# EAGLE library part SRAM-2MX8-TSOP44 (library xess)
2M x 8 SRAM
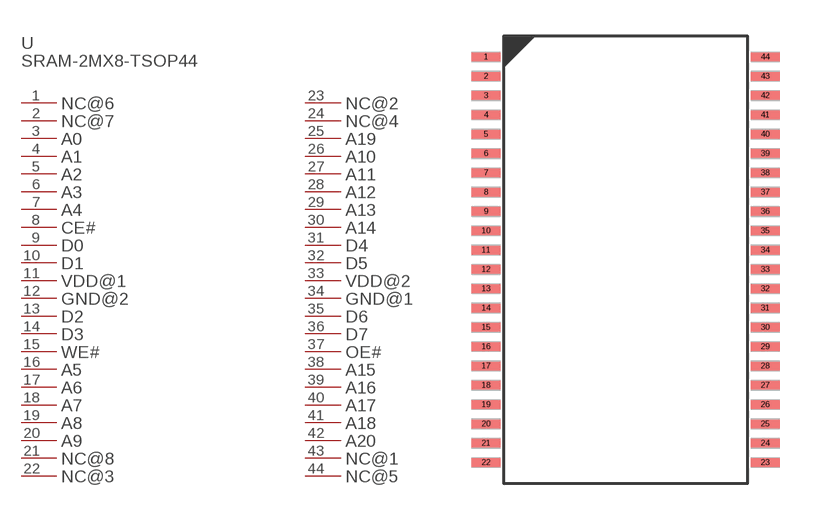
[diagram p93: symbol with the pads of SRAM-2MX8-TSOP44; footprint SRAM-2MX8-TSOP44]

Designator prefix U; gates PART_VALUE=PART_VALUE-SRAM-2MX8-TSOP44 NC@6=PL-SRAM-2MX8-TSOP44 NC@7=PL-SRAM-2MX8-TSOP44 A0=PL-SRAM-2MX8-TSOP44 A1=PL-SRAM-2MX8-TSOP44 A2=PL-SRAM-2MX8-TSOP44 A3=PL-SRAM-2MX8-TSOP44 A4=PL-SRAM-2MX8-TSOP44 CE#=PL-SRAM-2MX8-TSOP44 D0=PL-SRAM-2MX8-TSOP44 D1=PL-SRAM-2MX8-TSOP44 VDD@1=PL-SRAM-2MX8-TSOP44 GND@2=PL-SRAM-2MX8-TSOP44 D2=PL-SRAM-2MX8-TSOP44 D3=PL-SRAM-2MX8-TSOP44 WE#=PL-SRAM-2MX8-TSOP44 A5=PL-SRAM-2MX8-TSOP44 A6=PL-SRAM-2MX8-TSOP44 A7=PL-SRAM-2MX8-TSOP44 A8=PL-SRAM-2MX8-TSOP44 A9=PL-SRAM-2MX8-TSOP44 NC@8=PL-SRAM-2MX8-TSOP44 NC@3=PL-SRAM-2MX8-TSOP44 NC@2=PL-SRAM-2MX8-TSOP44 NC@4=PL-SRAM-2MX8-TSOP44 A19=PL-SRAM-2MX8-TSOP44 A10=PL-SRAM-2MX8-TSOP44 A11=PL-SRAM-2MX8-TSOP44 A12=PL-SRAM-2MX8-TSOP44 A13=PL-SRAM-2MX8-TSOP44 A14=PL-SRAM-2MX8-TSOP44 D4=PL-SRAM-2MX8-TSOP44 D5=PL-SRAM-2MX8-TSOP44 VDD@2=PL-SRAM-2MX8-TSOP44 GND@1=PL-SRAM-2MX8-TSOP44 D6=PL-SRAM-2MX8-TSOP44 D7=PL-SRAM-2MX8-TSOP44 OE#=PL-SRAM-2MX8-TSOP44 A15=PL-SRAM-2MX8-TSOP44 A16=PL-SRAM-2MX8-TSOP44 A17=PL-SRAM-2MX8-TSOP44 A18=PL-SRAM-2MX8-TSOP44 A20=PL-SRAM-2MX8-TSOP44 NC@1=PL-SRAM-2MX8-TSOP44 NC@5=PL-SRAM-2MX8-TSOP44

## SRAM-2MX8-TSOP44  [SRAM-2MX8-TSOP44]
1  NC@6:P$1
2  NC@7:P$1
3  A0:P$1
4  A1:P$1
5  A2:P$1
6  A3:P$1
7  A4:P$1
8  CE#:P$1
9  D0:P$1
10  D1:P$1
11  VDD@1:P$1
12  GND@2:P$1
13  D2:P$1
14  D3:P$1
15  WE#:P$1
16  A5:P$1
17  A6:P$1
18  A7:P$1
19  A8:P$1
20  A9:P$1
21  NC@8:P$1
22  NC@3:P$1
23  NC@2:P$1
24  NC@4:P$1
25  A19:P$1
26  A10:P$1
27  A11:P$1
28  A12:P$1
29  A13:P$1
30  A14:P$1
31  D4:P$1
32  D5:P$1
33  VDD@2:P$1
34  GND@1:P$1
35  D6:P$1
36  D7:P$1
37  OE#:P$1
38  A15:P$1
39  A16:P$1
40  A17:P$1
41  A18:P$1
42  A20:P$1
43  NC@1:P$1
44  NC@5:P$1

## Footprint SRAM-2MX8-TSOP44 (pad centres in mm)
smd 1.2 x 0.35: 1 -0.1,0; 2 -0.1,-0.8; 3 -0.1,-1.6; 4 -0.1,-2.4; 5 -0.1,-3.2; 6 -0.1,-4; 7 -0.1,-4.8; 8 -0.1,-5.6; 9 -0.1,-6.4; 10 -0.1,-7.2; 11 -0.1,-8; 12 -0.1,-8.8; 13 -0.1,-9.6; 14 -0.1,-10.4; 15 -0.1,-11.2; 16 -0.1,-12; 17 -0.1,-12.8; 18 -0.1,-13.6; 19 -0.1,-14.4; 20 -0.1,-15.2; 21 -0.1,-16; 22 -0.1,-16.8; 23 11.46,-16.8; 24 11.46,-16; 25 11.46,-15.2; 26 11.46,-14.4; 27 11.46,-13.6; 28 11.46,-12.8; 29 11.46,-12; 30 11.46,-11.2; 31 11.46,-10.4; 32 11.46,-9.6; 33 11.46,-8.8; 34 11.46,-8; 35 11.46,-7.2; 36 11.46,-6.4; 37 11.46,-5.6; 38 11.46,-4.8; 39 11.46,-4; 40 11.46,-3.2; 41 11.46,-2.4; 42 11.46,-1.6; 43 11.46,-0.8; 44 11.46,0